# EAGLE library part MF_CONNECTORS_USB (library mini-v1.14-macrofab-rtg)
Library: MF_Connectors Description: 5 Pin USB Connectors. SLD is the shield connection. Usually tied to ground through a small ferrite bead.
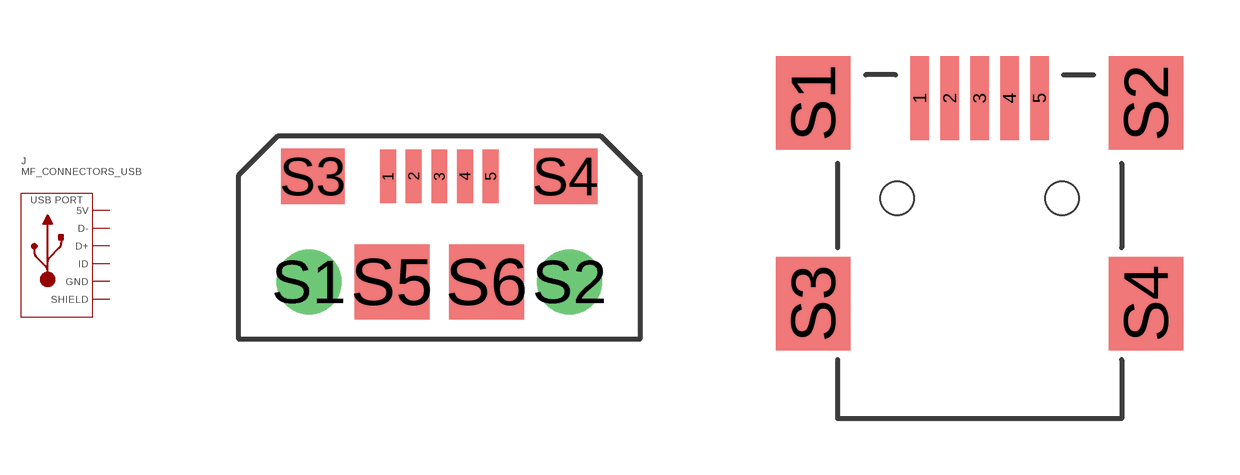
[diagram p0: symbol with the pads of MF_CONNECTORS_MICROUSB-RIGHT; footprints MF_CONNECTORS_MICROUSB-RIGHT, MF_CONNECTORS_MINIUSB-RIGHT]

Designator prefix J

## MF_CONNECTORS_USB_MICRO_RIGHT  [MF_CONNECTORS_MICROUSB-RIGHT]
1  5V  pwr
2  D-
3  D+
4  ID
5  GND  pwr
S1  SLD  pwr
S2  SLD  pwr
S3  SLD  pwr
S4  SLD  pwr
S5  SLD  pwr
S6  SLD  pwr

## MF_CONNECTORS_USB_MINI_RIGHT  [MF_CONNECTORS_MINIUSB-RIGHT]
1  5V  pwr
2  D-
3  D+
4  ID
5  GND  pwr
S1  SLD  pwr
S2  SLD  pwr
S3  SLD  pwr
S4  SLD  pwr

## Footprint MF_CONNECTORS_MICROUSB-RIGHT (pad centres in mm)
Description: Package for Micro USB Type B connector. Based on FCI 10118193-0001LF.
smd 0.4 x 1.35: 1 -1.3,1.27; 2 -0.65,1.27; 3 0,1.27; 4 0.65,1.27; 5 1.3,1.27
drill 1.1: S1 -3.3,-1.405; S2 3.3,-1.405
smd 1.6 x 1.4: S3 -3.2,1.27; S4 3.2,1.27
smd 1.9 x 1.9: S5 -1.2,-1.405; S6 1.2,-1.405

## Footprint MF_CONNECTORS_MINIUSB-RIGHT (pad centres in mm)
Description: Package for Mini USB Type B connector. Based on 4UCON 20236.
smd 0.5 x 2.25: 1 -1.6,0; 2 -0.8,0; 3 0,0; 4 0.8,0; 5 1.6,0
smd 2 x 2.5: S1 -4.45,-0.125; S2 4.45,-0.125; S3 -4.45,-5.5; S4 4.45,-5.5
hole 0.9 at -2.2,-2.675
hole 0.9 at 2.2,-2.675